# Altium footprint library Custom.PcbLib: 47 footprints (part 2 of 3)
Each footprint in its own frame and in the unit in brackets; x right, y up, seen from the top. Pads: shape width x height; smd on the part's side, far side on the other; paste and mask are expansions set on the pad; w line width, h text height; cw(c..) or ccw(c..) is an arc to the next point about the centre after c.
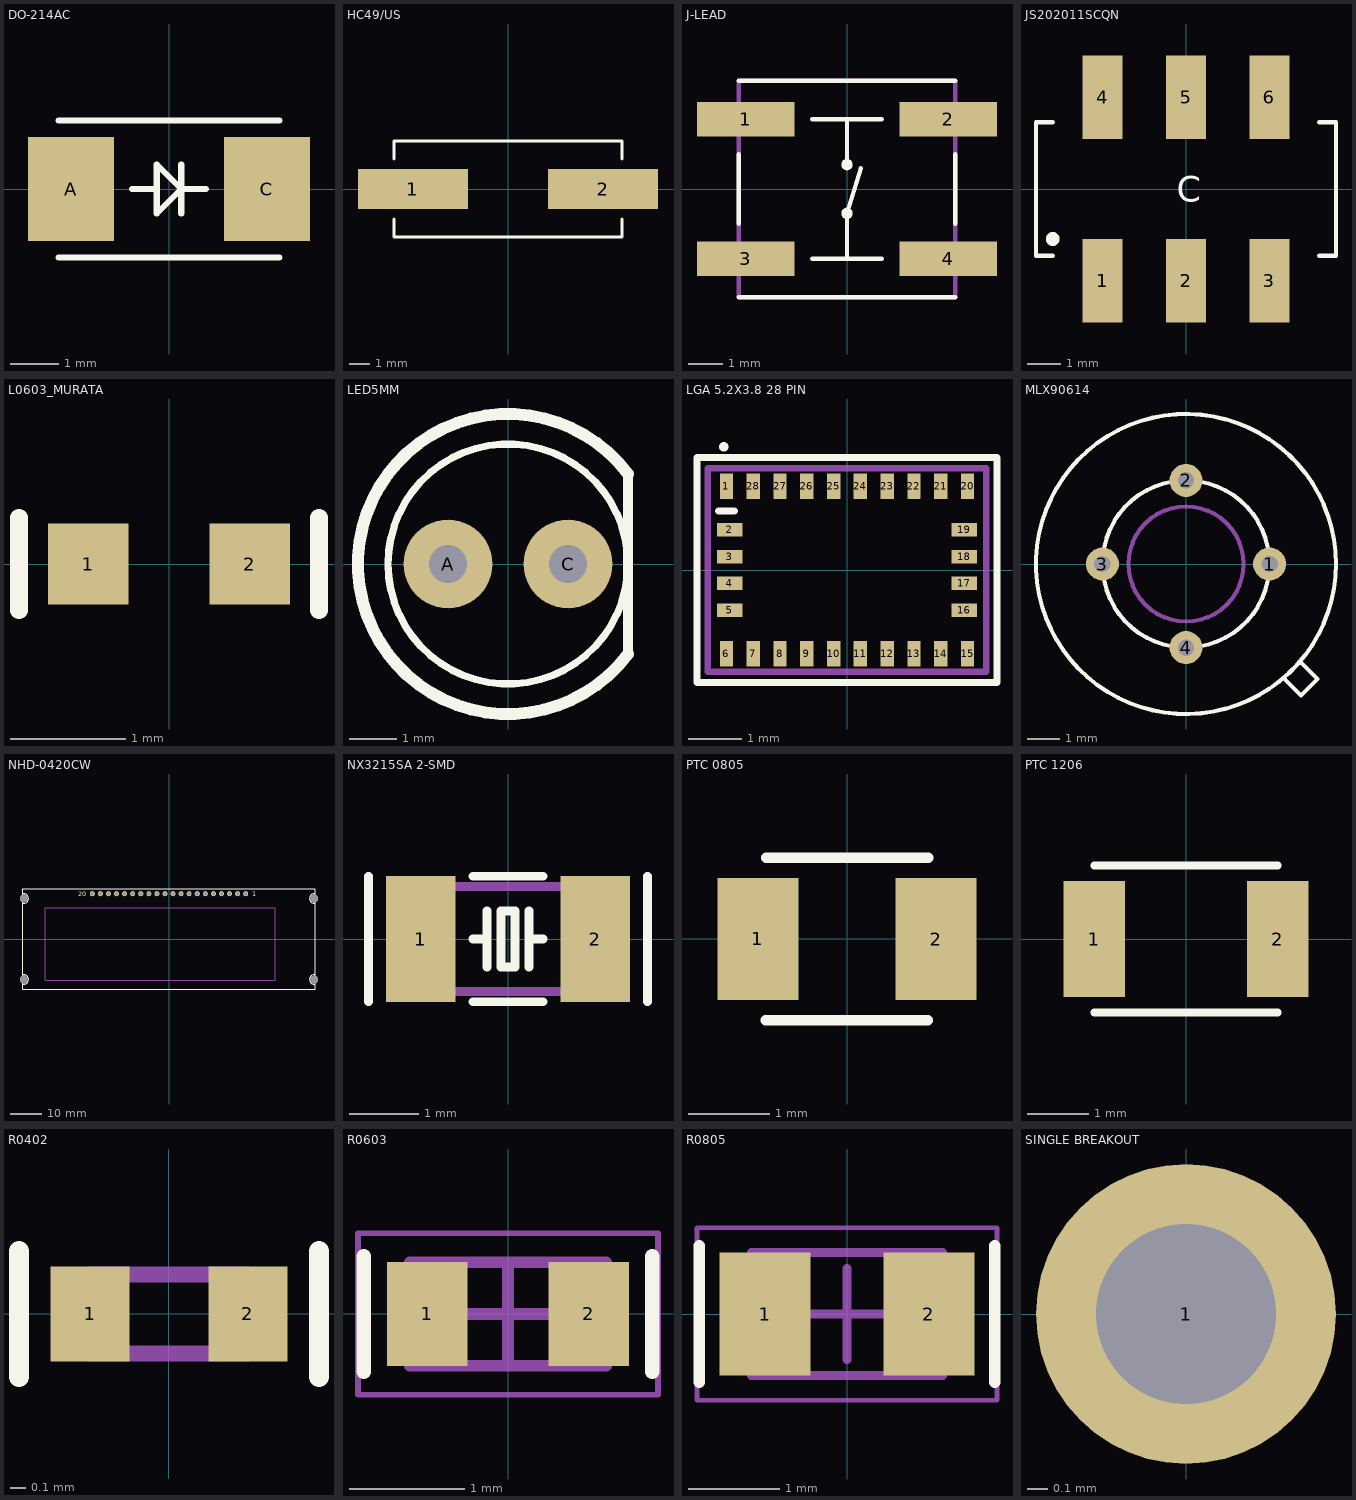
[diagram p1: the footprints below, top view; thin cyan lines are the x and y axes]

## DO-214AC [mil] "DO-214AC High Profile Diode"
height 116.14
pads (2):
  rect 70x85 smd: A(-80,0) C(80,0)
Top Overlay:
  lines w5: -90,-56 90,-56 ; -90,56 90,56 ; -30,0 -10,0 ; 10,-20 10,20 ; 30,0 10,0 ; 10,0 -10,-20 -10,20 10,0
3D body "User Library-DIOM5528X26.step": height 102.36, standoff 1.02, extent -108.28,-54.11 108.26,56.12

## HC49/US [mm] "SMD Crystal"
height 4.3
pads (2):
  rect 5.5x2 smd: 1(-4.75,0) 2(4.75,0)
Top Overlay:
  lines w0.127: -5.7,-1.5 -5.7,-2.4 5.7,-2.4 5.7,-1.5 ; -5.7,1.5 -5.7,2.4 5.7,2.4 5.7,1.5
3D body "User Library-HC49US.STEP": height 4.2, standoff 0, extent -6.35,-2.35 6.35,2.35

## J-LEAD [mm] "6.2mmx6.2mm Tactile Switch"
height 5.2
pads (4):
  rect 2.8x1 smd: 1(-2.9,2) 2(2.9,2) 3(-2.9,-2) 4(2.9,-2)
Top Overlay:
  lines w0.127: -3.1,-3.1 3.1,-3.1 ; -3.1,-1 -3.1,1 ; -3.1,3.1 3.1,3.1 ; -1,-2 1,-2 ; -1,2 1,2 ; -0.095,0.668 cw(c0,0.7) -0.089,0.655 ; 0,-2 0,-0.7 0.4,0.6 ; 0,0.7 0,2 ; 0.089,-0.655 ccw(c0,-0.7) 0.095,-0.668 ; 3.1,-1 3.1,1
Mechanical 13:
  lines w0.127: -3.1,-3.1 -3.1,3.1 3.1,3.1 3.1,-3.1 -3.1,-3.1

## JS202011SCQN [mm] "Surface Mount DPDT Switch"
height 5.5
pads (6):
  rect 1.2x2.5 smd: 1(-2.5,-2.75) 2(0,-2.75) 3(2.5,-2.75) 4(-2.5,2.75) 5(0,2.75) 6(2.5,2.75)
Top Overlay:
  circle w0.3: c-4,-1.5 r0.057
  lines w0.127: -4,-2 -4.5,-2 -4.5,2 -4,2 ; 4,-2 4.5,-2 4.5,2 4,2
  text "C" at -0.279,-0.381 h0.76
3D body "User Library-smd_slide_switch.step": height 5.45, standoff 0, extent -4.525,-3.45 4.525,3.45

## L0603_MURATA [mm] "Chip inductor/bead from muRata"
pads (2):
  rect 0.7x0.7 smd: 1(-0.7,0) 2(0.7,0)
Top Overlay:
  lines w0.152: -1.3,-0.4 -1.3,0.4 ; 1.3,-0.4 1.3,0.4
3D body "44216.stp": height 0.8, standoff 0, extent -0.8,-0.4 0.8,0.4

## LED5MM [mil]
height 196.85
pads (2):
  round 74 hole 32: A(-50,0) C(50,0)
Top Overlay:
  circle w6: c0,0 r100
  lines w8: 100,-75 100,75
  lines w10: 100,-75 cw(c0,0) 100,75

## LGA 5.2X3.8 28 PIN [mm] "LGA Package used by BNO055"
height 1.18
pads (28):
  rect 0.25x0.475 smd: 1(-2.25,1.562) 6(-2.25,-1.562) 7(-1.75,-1.562) 8(-1.25,-1.562) 9(-0.75,-1.562) 10(-0.25,-1.562) 11(0.25,-1.562) 12(0.75,-1.562) 13(1.25,-1.562) 14(1.75,-1.562) 15(2.25,-1.562) 20(2.25,1.562) 21(1.75,1.562) 22(1.25,1.562) 23(0.75,1.562) 24(0.25,1.562) 25(-0.25,1.562) 26(-0.75,1.562) 27(-1.25,1.562) 28(-1.75,1.562)
  rect 0.475x0.25 smd: 2(-2.187,0.75) 3(-2.187,0.25) 4(-2.187,-0.25) 5(-2.187,-0.75) 16(2.187,-0.75) 17(2.187,-0.25) 18(2.187,0.25) 19(2.187,0.75)
Top Overlay:
  circle w0.127: c-2.3,2.3 r0.025
  lines w0.127: -2.4,1.1 -2.1,1.1 ; -2.8,-2.1 -2.8,2.1 2.8,2.1 2.8,-2.1 -2.8,-2.1
Mechanical 13:
  lines w0.127: -2.6,-1.9 -2.6,1.9 2.6,1.9 2.6,-1.9 -2.6,-1.9
3D body: height 1.18, standoff 0.1, extent -2.6,-1.9 2.6,1.9

## MLX90614 [mm] "Melexis Infrared Thermometer TO-39 Can"
height 8.25
pads (4):
  round 1 hole 0.5: 1(2.54,0) 2(0,2.54) 3(-2.54,0) 4(0,-2.54)
Top Overlay:
  circle w0.127: c0,0 r4.56
  circle w0.127: c0,0 r2.54
  lines w0.127: 3,-3.5 3.25,-3.75 ; 3.5,-3 3.75,-3.25 ; 3.25,-3.75 3.497,-3.996 3.996,-3.497 3.75,-3.25 ; 3.25,-3.75 3.25,-3.75 ; 3.75,-3.25 3.75,-3.25
Mechanical 1:
  circle w0.127: c0,0 r1.75
3D body "Sensor.STEP": height 4.1, standoff -13, extent -4.56,-4.552 4.56,4.56

## NHD-0420CW [mm]
height 5
pads (24):
  round 1.6 hole 1: 1(24.13,14.25) 2(21.59,14.25) 3(19.05,14.25) 4(16.51,14.25) 5(13.97,14.25) 6(11.43,14.25) 7(8.89,14.25) 8(6.35,14.25) 9(3.81,14.25) 10(1.27,14.25) 11(-1.27,14.25) 12(-3.81,14.25) 13(-6.35,14.25) 14(-8.89,14.25) 15(-11.43,14.25) 16(-13.97,14.25) 17(-16.51,14.25) 18(-19.05,14.25) 19(-21.59,14.25) 20(-24.13,14.25)
  round 2.5 hole 2.5 unplated: ""(-45.7,-12.75) ""(-45.7,12.75) ""(45.7,-12.75) ""(45.7,12.75)
Top Overlay:
  lines w0.127: -46.005,-11.281 cw(c-45.7,-12.75) -45.999,-14.22 ; -45.999,14.22 cw(c-45.7,12.75) -45.981,11.277 ; 45.981,-11.277 ccw(c45.7,-12.75) 45.999,-14.22 ; 45.999,14.22 ccw(c45.7,12.75) 46.005,11.281 ; -46,-15.75 46,-15.75 46,15.75 -46,15.75 -46,-15.75
  text "1" at 26.162,13.462 h1.52
  text "20" at -28.575,13.462 h1.52
Mechanical 13:
  lines w0.127: -39,-12.91 33.42,-12.91 33.42,9.91 -39,9.91 -39,-12.91

## NX3215SA 2-SMD [mm] "NX3215SA Series Crystal SMD"
height 0.8
pads (2):
  rect 1x1.8 smd: 1(-1.25,0) 2(1.25,0)
Top Overlay:
  lines w0.127: -2,-0.9 -2,0.9 ; -0.5,-0.9 0.5,-0.9 ; -0.5,0 -0.3,0 ; -0.5,0.9 0.5,0.9 ; -0.3,-0.4 -0.3,0.4 ; 0.3,-0.4 0.3,0.4 ; 0.3,0 0.5,0 ; 2,-0.9 2,0.9 ; -0.1,-0.4 0.1,-0.4 0.1,0.4 -0.1,0.4 -0.1,-0.4
Mechanical 13:
  lines w0.127: -1.6,-0.75 1.6,-0.75 1.6,0.75 -1.6,0.75 -1.6,-0.75
3D body "User Library-NDK_NX3215SA.step": height 0.8, standoff 0, extent -1.6,-0.75 1.6,0.75

## PTC 0805 [mm]
height 0.9
pads (2):
  rect 1x1.5 smd: 1(-1.1,0) 2(1.1,0)
Top Overlay:
  lines w0.127: -1,-1 1,-1 ; -1,1 1,1
3D body "0805 PTC.stp": height 1, standoff 0, extent -1.075,-0.675 1.075,0.675

## PTC 1206 [mm] "PTC Resettable Fuse, 1206 Bel 0ZCJ Series"
pads (2):
  rect 1x1.9 smd: 1(-1.5,0) 2(1.5,0)
Top Overlay:
  lines w0.127: -1.5,-1.2 1.5,-1.2 ; -1.5,1.2 1.5,1.2
3D body "User Library-nona SMD075F.step": height 0.56, standoff 0, extent -1.601,-0.826 1.601,0.826

## R0402 [mm]
pads (2):
  rect 0.5x0.6 smd: 1(-0.5,0) 2(0.5,0)
Top Overlay:
  lines w0.127: -0.95,-0.4 -0.95,0.4 ; 0.95,-0.4 0.95,0.4
Mechanical 13:
  lines w0.1: -0.5,-0.25 0.5,-0.25 ; -0.5,0.25 0.5,0.25
3D body "User Library-CR1005-0402.step": height 0.35, standoff 0, extent -0.5,-0.25 0.5,0.25

## R0603 [mm] "Yageo RC_L Series 0603 Resistor"
height 0.55
pads (2):
  rect 0.7x0.9 smd: 1(-0.7,0) 2(0.7,0)
Top Overlay:
  lines w0.127: -1.25,-0.5 -1.25,0.5 ; 1.25,-0.5 1.25,0.5
Mechanical 13:
  lines w0.1: -0.85,-0.45 0.85,-0.45 0.85,0.45 -0.85,0.45 -0.85,-0.45
Mechanical 15:
  lines w0.05: -1.3,-0.7 1.3,-0.7 1.3,0.7 -1.3,0.7 -1.3,-0.7
  lines w0.1: -0.45,0 0.45,0 ; 0,-0.45 0,0.45
3D body "User Library-R0603.step": height 0.37, standoff 0, extent -0.8,-0.401 0.8,0.401

## R0805 [mm] "Yageo RC_L Series 0805 Resistor"
height 0.6
pads (2):
  rect 1x1.35 smd: 1(-0.9,0) 2(0.9,0)
Top Overlay:
  lines w0.127: -1.625,-0.75 -1.625,0.75 ; 1.625,-0.75 1.625,0.75
Mechanical 13:
  lines w0.1: -1.05,-0.675 1.05,-0.675 1.05,0.675 -1.05,0.675 -1.05,-0.675
Mechanical 15:
  lines w0.05: -1.65,-0.95 1.65,-0.95 1.65,0.95 -1.65,0.95 -1.65,-0.95
  lines w0.1: -0.5,0 0.5,0 ; 0,-0.5 0,0.5
3D body: height 0.6, standoff 0, extent 0.7,-0.675 1.05,0.675
3D body: height 0.6, standoff 0, extent -1.05,-0.675 -0.7,0.675
3D body: height 0.6, standoff 0, extent -0.7,-0.675 0.7,0.675

## SINGLE BREAKOUT [mm] "40 mil Single Breakout Pin"
pads (1):
  round 1.5 hole 0.9: 1(0,0)